# EAGLE library part CR001B-K4_DEVICE (library CR001B-K4)
RFID reader module
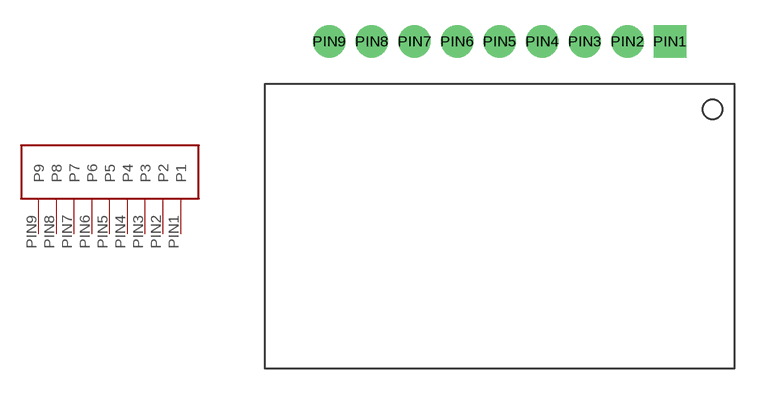
[diagram p0: symbol with the pads of CR001B-K4_PAK; footprint CR001B-K4_PAK]

Designator prefix -

## CR001B-K4_DEVICE  [CR001B-K4_PAK]
PIN1  P1
PIN2  P2
PIN3  P3
PIN4  P4
PIN5  P5
PIN6  P6
PIN7  P7
PIN8  P8
PIN9  P9

## Footprint CR001B-K4_PAK (pad centres in mm)
CR001B-K4 RFID reader module (Laying flat)
drill 0.8 pad 1.93 square: PIN1 10.16,2.54
drill 0.8 pad 1.93 round: PIN2 7.62,2.54; PIN3 5.08,2.54; PIN4 2.54,2.54; PIN5 0,2.54; PIN6 -2.54,2.54; PIN7 -5.08,2.54; PIN8 -7.62,2.54; PIN9 -10.16,2.54